# Altium schematic symbol library SCH - POWER - SWITCHMODE - TI TPS62823DLC.SchLib: 1 symbol
Pins are listed as number, name and electrical type; pins without a type are passive.

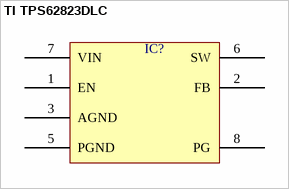
[diagram p0: symbol TI TPS62823DLC]

## TI TPS62823DLC
designator IC?  (value not drawn)
pins: 1 EN, 2 FB, 3 AGND, 5 PGND, 6 SW, 7 VIN, 8 PG